# Altium footprint library SOD-323.PcbLib: 1 footprints
Each footprint in its own frame and in the unit in brackets; x right, y up, seen from the top. Pads: shape width x height; smd on the part's side, far side on the other; paste and mask are expansions set on the pad; w line width, h text height; cw(c..) or ccw(c..) is an arc to the next point about the centre after c.
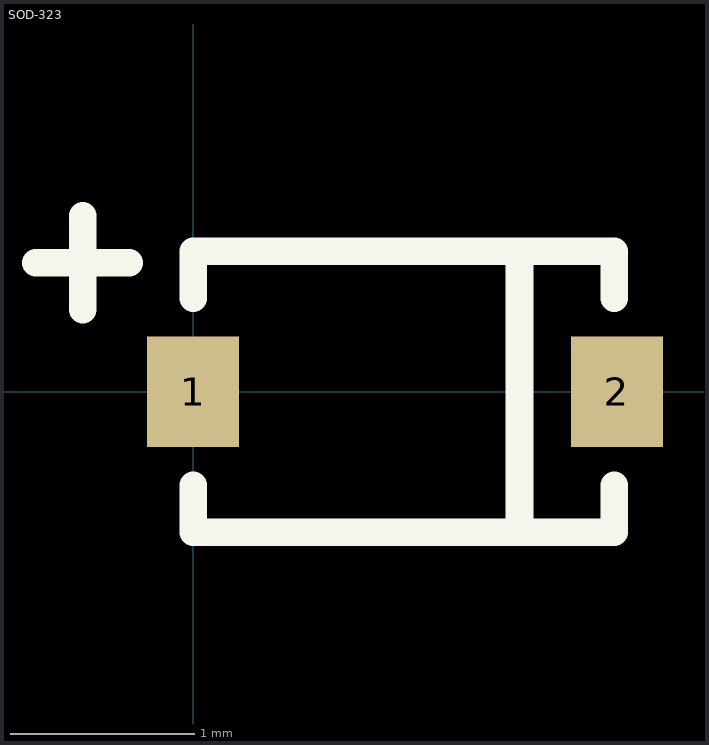
[diagram p0: the footprint, top view; thin cyan lines are the x and y axes]

## SOD-323 [mm]
pads (2):
  rect 0.5x0.6 smd: 1(0,0) 2(2.3,0)
Top Overlay:
  lines w0.15: -0.854,0.7 -0.346,0.7 ; -0.6,0.446 -0.6,0.954 ; 0,-0.508 0,-0.762 2.286,-0.762 2.286,-0.508 ; 0,0.508 0,0.762 2.286,0.762 2.286,0.508 ; 0.702,0.762 1.771,0.762 1.771,-0.762
3D body "SC-76A.stp": height 1.15, standoff 0, extent -0.207,-0.725 2.493,0.725